# Altium footprint library 1812_Fuse.PcbLib: 1 footprints
Each footprint in its own frame and in the unit in brackets; x right, y up, seen from the top. Pads: shape width x height; smd on the part's side, far side on the other; paste and mask are expansions set on the pad; w line width, h text height; cw(c..) or ccw(c..) is an arc to the next point about the centre after c.
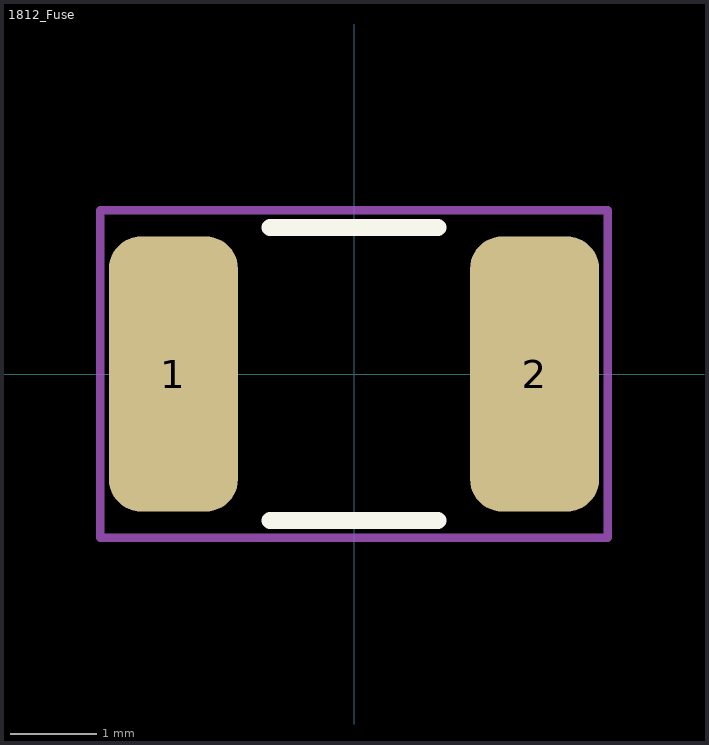
[diagram p0: the footprint, top view; thin cyan lines are the x and y axes]

## 1812_Fuse [mm]
pads (2):
  rrect50% 1.5x3.2 smd: 1(-2.1,0) 2(2.1,0)
Top Overlay:
  lines w0.2: -0.975,-1.705 0.975,-1.705 ; -0.975,1.705 0.975,1.705
Mechanical 1:
  lines w0.1: -2.95,-1.905 2.95,-1.905 2.95,1.905 -2.95,1.905 -2.95,-1.905
  text ".Designator" at -0.127,0.061 h1
Top Courtyard:
  text "+" at -0.666,-1 h2
3D body "Fuse_Bourns_Inc_MF-MSMF010-2_eec.STEP": height 1.1, standoff 0, extent -2.275,-1.62 2.275,1.62